# EAGLE library part 750315363 (library WE-OLSTM)
WE-OLSTM Offline Flyback Transformers Characteristics Nominal input voltage: 85–265 VAC (120–375 VDC) Operating temperature: –40 °C to +125 °C Isolation voltage: 2 kVAC up to 5 kVAC Multiple output options Options for fixed frequency or quasi-resonant mode operation Most products meet reinforced insulation Applications Offline-switch mode power supplies Especially designed for several ICs from STMicroelectronics Auxiliary power supply Home appliances Consumer electronics <https://www.we-online.com/components/media/o781306v209%20FAMILY-MID-OLSTM.jpg> Details see: www.we-online.com/en/components/products/WE-OLSTM <www.we-online.com/en/components/products/WE-OLSTM/?utm_source=eagle_model&utm_medium=description_link&utm_campaign=eisos_eagle> Created by Leviosa 2024-04-15 2024(C) Wurth Elektronik
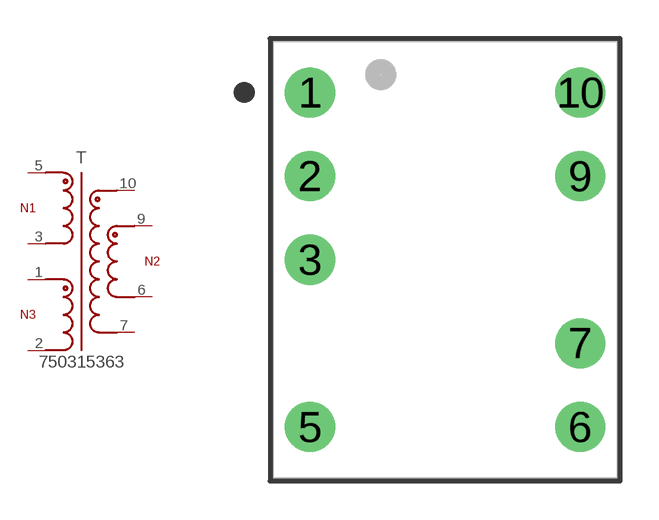
[diagram p21: symbol with the pads of WE-OLSTM_EE16_750315363; footprint WE-OLSTM_EE16_750315363]

Designator prefix T

## 750315363 (DATASHEET-URL: https://www.we-online.com/redexpert/spec/750315363?ae; FSWITCH: 60kHz; IOUT1: 600mA; ISAT: 625mA; L: 2mH; MOUNT: THT; N: 5.86:1:0.586; PART-NUMBER: 750315363; SIZE: EE16/7/5; VALUE: 750315363; VAUX: 5.1V; VIN: 85 - 265 V (AC); VOUT1: 12V; VT: 3000V(AC))  [WE-OLSTM_EE16_750315363]
1  1  pas
2  2  pas
3  3  pas
5  5  pas
6  6  pas
7  7  pas
9  9  pas
10  10  pas

## Footprint WE-OLSTM_EE16_750315363 (pad centres in mm)
WE-OLSTM Offline Flyback Transformers for STMicroelectronics Size: EE16, THT, 8Pins LXWXH=17X13.4X21.5mm
drill 1.3: 1 -5.25,6.5; 2 -5.25,3.25; 3 -5.25,0; 5 -5.25,-6.5; 6 5.25,-6.5; 7 5.25,-3.25; 9 5.25,3.25; 10 5.25,6.5